# EAGLE library part TPS54560 (library texas)
DC-DC Convertor 4.5 V to 60 V Input, 5 A, Step Down
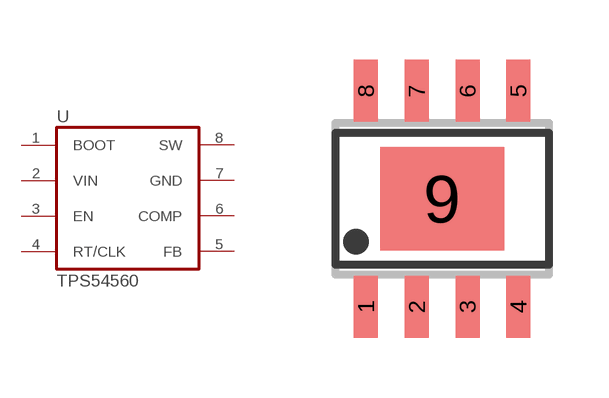
[diagram p78: symbol with the pads of SO08-POWERPAD; footprint SO08-POWERPAD]

Designator prefix U

## TPS54560  [SO08-POWERPAD]
1  BOOT  in
2  VIN  in
3  EN  in
4  RT/CLK  in
5  FB  pas
6  COMP  out
7  GND  in
8  SW  out

## Footprint SO08-POWERPAD (pad centres in mm)
smd 0.6 x 1.55: 1 -1.905,-2.7; 2 -0.635,-2.7; 3 0.635,-2.7; 4 1.905,-2.7; 5 1.905,2.7; 6 0.635,2.7; 7 -0.635,2.7; 8 -1.905,2.7
smd 3.1 x 2.6: 9 0,0